# Altium footprint library BoardConnectors.PcbLib: 6 footprints (part 2 of 2)
Each footprint in its own frame and in the unit in brackets; x right, y up, seen from the top. Pads: shape width x height; smd on the part's side, far side on the other; paste and mask are expansions set on the pad; w line width, h text height; cw(c..) or ccw(c..) is an arc to the next point about the centre after c.
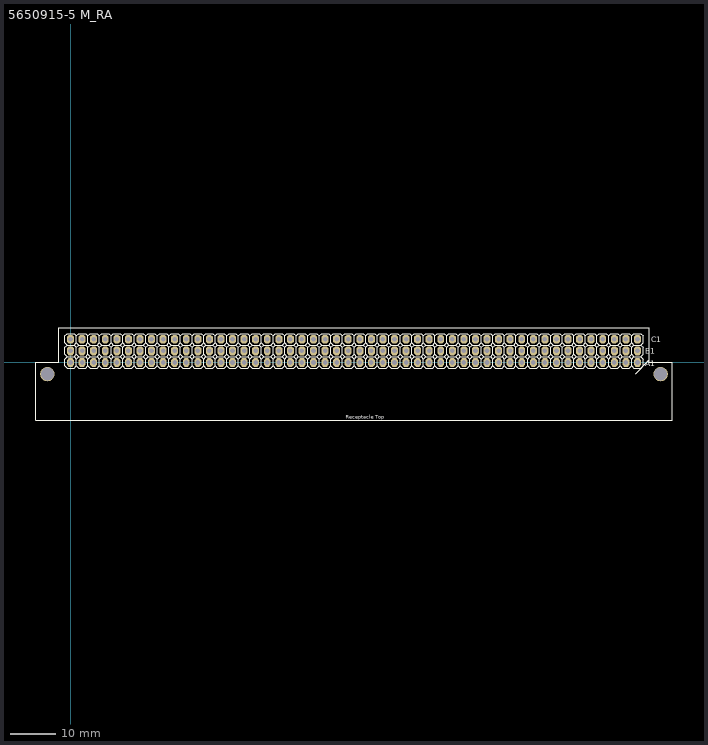
[diagram p1: the footprint, top view; thin cyan lines are the x and y axes]

## 5650915-5 M_RA [mil] "CONN DIN PLUG 150POS RT ANG PCB"
pads (152):
  oct 60x75 hole 40: A1(4900,0) A2(4800,0) A3(4700,0) A4(4600,0) A5(4500,0) A6(4400,0) A7(4300,0) A8(4200,0) A9(4100,0) A10(4000,0) A11(3900,0) A12(3800,0) A13(3700,0) A14(3600,0) A15(3500,0) A16(3400,0) A17(3300,0) A18(3200,0) A19(3100,0) A20(3000,0) A21(2900,0) A22(2800,0) A23(2700,0) A24(2600,0) A25(2500,0) A26(2400,0) A27(2300,0) A28(2200,0) A29(2100,0) A30(2000,0) A31(1900,0) A32(1800,0) A33(1700,0) A34(1600,0) A35(1500,0) A36(1400,0) A37(1300,0) A38(1200,0) A39(1100,0) A40(1000,0) A41(900,0) A42(800,0) A43(700,0) A44(600,0) A45(500,0) A46(400,0) A47(300,0) A48(200,0) A49(100,0) A50(0,0) B1(4900,100) B2(4800,100) B3(4700,100) B4(4600,100) B5(4500,100) B6(4400,100) B7(4300,100) B8(4200,100) B9(4100,100) B10(4000,100) B11(3900,100) B12(3800,100) B13(3700,100) B14(3600,100) B15(3500,100) B16(3400,100) B17(3300,100) B18(3200,100) B19(3100,100) B20(3000,100) B21(2900,100) B22(2800,100) B23(2700,100) B24(2600,100) B25(2500,100) B26(2400,100) B27(2300,100) B28(2200,100) B29(2100,100) B30(2000,100) B31(1900,100) B32(1800,100) B33(1700,100) B34(1600,100) B35(1500,100) B36(1400,100) B37(1300,100) B38(1200,100) B39(1100,100) B40(1000,100) B41(900,100) B42(800,100) B43(700,100) B44(600,100) B45(500,100) B46(400,100) B47(300,100) B48(200,100) B49(100,100) B50(0,100) C1(4900,200) C2(4800,200) C3(4700,200) C4(4600,200) C5(4500,200) C6(4400,200) C7(4300,200) C8(4200,200) C9(4100,200) C10(4000,200) C11(3900,200) C12(3800,200) C13(3700,200) C14(3600,200) C15(3500,200) C16(3400,200) C17(3300,200) C18(3200,200) C19(3100,200) C20(3000,200) C21(2900,200) C22(2800,200) C23(2700,200) C24(2600,200) C25(2500,200) C26(2400,200) C27(2300,200) C28(2200,200) C29(2100,200) C30(2000,200) C31(1900,200) C32(1800,200) C33(1700,200) C34(1600,200) C35(1500,200) C36(1400,200) C37(1300,200) C38(1200,200) C39(1100,200) C40(1000,200) C41(900,200) C42(800,200) C43(700,200) C44(600,200) C45(500,200) C46(400,200) C47(300,200) C48(200,200) C49(100,200) C50(0,200)
  round 125 hole 110: ""(-200,-100) ""(5100,-100)
Top Overlay:
  drawing of 1209 lines, arcs and shapes, not listed
  text "Receptacle Top" at 2377,-488 h30
  text "A1" at 4968,-32 h48
  text "B1" at 4967,75 h48
  text "C1" at 5017,177 h48
3D body: height 333, standoff 0, extent -301,-501 5199,-100
3D body: height 139.37, standoff -84.65, extent -11.81,92.13 11.81,107.87
3D body: height 147.24, standoff 130, extent -12,-105 12,107.87
3D body: height 39.37, standoff -84.65, extent -11.81,-7.87 11.81,7.87
3D body: height 47.24, standoff 30, extent -12,-105 12,7.87
3D body: height 247.24, standoff 230, extent -12,-105 12,207.87
3D body: height 239.37, standoff -84.65, extent -11.81,192.13 11.81,207.87
3D body: height 239.37, standoff -84.65, extent 88.19,192.13 111.81,207.87
3D body: height 247.24, standoff 230, extent 88,-105 112,207.87
3D body: height 47.24, standoff 30, extent 88,-105 112,7.87
3D body: height 39.37, standoff -84.65, extent 88.19,-7.87 111.81,7.87
3D body: height 147.24, standoff 130, extent 88,-105 112,107.87
3D body: height 139.37, standoff -84.65, extent 88.19,92.13 111.81,107.87
3D body: height 239.37, standoff -84.65, extent 189.19,192.13 212.81,207.87
3D body: height 247.24, standoff 230, extent 189,-105 213,207.87
3D body: height 47.24, standoff 30, extent 189,-105 213,7.87
3D body: height 39.37, standoff -84.65, extent 189.19,-7.87 212.81,7.87
3D body: height 147.24, standoff 130, extent 189,-105 213,107.87
3D body: height 139.37, standoff -84.65, extent 189.19,92.13 212.81,107.87
3D body: height 239.37, standoff -84.65, extent 289.19,192.13 312.81,207.87
3D body: height 247.24, standoff 230, extent 289,-105 313,207.87
3D body: height 47.24, standoff 30, extent 289,-105 313,7.87
3D body: height 39.37, standoff -84.65, extent 289.19,-7.87 312.81,7.87
3D body: height 147.24, standoff 130, extent 289,-105 313,107.87
3D body: height 139.37, standoff -84.65, extent 289.19,92.13 312.81,107.87
3D body: height 239.37, standoff -84.65, extent 389.19,192.13 412.81,207.87
3D body: height 247.24, standoff 230, extent 389,-105 413,207.87
3D body: height 47.24, standoff 30, extent 389,-105 413,7.87
3D body: height 39.37, standoff -84.65, extent 389.19,-7.87 412.81,7.87
3D body: height 147.24, standoff 130, extent 389,-105 413,107.87
3D body: height 139.37, standoff -84.65, extent 389.19,92.13 412.81,107.87
3D body: height 239.37, standoff -84.65, extent 489.19,192.13 512.81,207.87
3D body: height 247.24, standoff 230, extent 489,-105 513,207.87
3D body: height 47.24, standoff 30, extent 489,-105 513,7.87
3D body: height 39.37, standoff -84.65, extent 489.19,-7.87 512.81,7.87
3D body: height 147.24, standoff 130, extent 489,-105 513,107.87
3D body: height 139.37, standoff -84.65, extent 489.19,92.13 512.81,107.87
3D body: height 239.37, standoff -84.65, extent 589.19,192.13 612.81,207.87
3D body: height 247.24, standoff 230, extent 589,-105 613,207.87
3D body: height 47.24, standoff 30, extent 589,-105 613,7.87
3D body: height 39.37, standoff -84.65, extent 589.19,-7.87 612.81,7.87
3D body: height 147.24, standoff 130, extent 589,-105 613,107.87
3D body: height 139.37, standoff -84.65, extent 589.19,92.13 612.81,107.87
3D body: height 239.37, standoff -84.65, extent 689.19,192.13 712.81,207.87
3D body: height 247.24, standoff 230, extent 689,-105 713,207.87
3D body: height 47.24, standoff 30, extent 689,-105 713,7.87
3D body: height 39.37, standoff -84.65, extent 689.19,-7.87 712.81,7.87
3D body: height 147.24, standoff 130, extent 689,-105 713,107.87
3D body: height 139.37, standoff -84.65, extent 689.19,92.13 712.81,107.87
3D body: height 239.37, standoff -84.65, extent 789.19,192.13 812.81,207.87
3D body: height 247.24, standoff 230, extent 789,-105 813,207.87
3D body: height 47.24, standoff 30, extent 789,-105 813,7.87
3D body: height 39.37, standoff -84.65, extent 789.19,-7.87 812.81,7.87
3D body: height 147.24, standoff 130, extent 789,-105 813,107.87
3D body: height 139.37, standoff -84.65, extent 789.19,92.13 812.81,107.87
3D body: height 239.37, standoff -84.65, extent 889.19,192.13 912.81,207.87
3D body: height 247.24, standoff 230, extent 889,-105 913,207.87
3D body: height 47.24, standoff 30, extent 889,-105 913,7.87
3D body: height 39.37, standoff -84.65, extent 889.19,-7.87 912.81,7.87
3D body: height 147.24, standoff 130, extent 889,-105 913,107.87
3D body: height 139.37, standoff -84.65, extent 889.19,92.13 912.81,107.87
3D body: height 239.37, standoff -84.65, extent 989.19,192.13 1012.81,207.87
3D body: height 247.24, standoff 230, extent 989,-105 1013,207.87
3D body: height 47.24, standoff 30, extent 989,-105 1013,7.87
3D body: height 39.37, standoff -84.65, extent 989.19,-7.87 1012.81,7.87
3D body: height 147.24, standoff 130, extent 989,-105 1013,107.87
3D body: height 139.37, standoff -84.65, extent 989.19,92.13 1012.81,107.87
3D body: height 239.37, standoff -84.65, extent 1089.19,192.13 1112.81,207.87
3D body: height 247.24, standoff 230, extent 1089,-105 1113,207.87
3D body: height 47.24, standoff 30, extent 1089,-105 1113,7.87
3D body: height 39.37, standoff -84.65, extent 1089.19,-7.87 1112.81,7.87
3D body: height 147.24, standoff 130, extent 1089,-105 1113,107.87
3D body: height 139.37, standoff -84.65, extent 1089.19,92.13 1112.81,107.87
3D body: height 239.37, standoff -84.65, extent 1189.19,192.13 1212.81,207.87
3D body: height 247.24, standoff 230, extent 1189,-105 1213,207.87
3D body: height 47.24, standoff 30, extent 1189,-105 1213,7.87
3D body: height 39.37, standoff -84.65, extent 1189.19,-7.87 1212.81,7.87
3D body: height 147.24, standoff 130, extent 1189,-105 1213,107.87
3D body: height 139.37, standoff -84.65, extent 1189.19,92.13 1212.81,107.87
3D body: height 239.37, standoff -84.65, extent 1289.19,192.13 1312.81,207.87
3D body: height 247.24, standoff 230, extent 1289,-105 1313,207.87
3D body: height 47.24, standoff 30, extent 1289,-105 1313,7.87
3D body: height 39.37, standoff -84.65, extent 1289.19,-7.87 1312.81,7.87
3D body: height 147.24, standoff 130, extent 1289,-105 1313,107.87
3D body: height 139.37, standoff -84.65, extent 1289.19,92.13 1312.81,107.87
3D body: height 239.37, standoff -84.65, extent 1389.19,192.13 1412.81,207.87
3D body: height 247.24, standoff 230, extent 1389,-105 1413,207.87
3D body: height 47.24, standoff 30, extent 1389,-105 1413,7.87
3D body: height 39.37, standoff -84.65, extent 1389.19,-7.87 1412.81,7.87
3D body: height 147.24, standoff 130, extent 1389,-105 1413,107.87
3D body: height 139.37, standoff -84.65, extent 1389.19,92.13 1412.81,107.87
3D body: height 239.37, standoff -84.65, extent 1489.19,192.13 1512.81,207.87
3D body: height 247.24, standoff 230, extent 1489,-105 1513,207.87
3D body: height 47.24, standoff 30, extent 1489,-105 1513,7.87
3D body: height 39.37, standoff -84.65, extent 1489.19,-7.87 1512.81,7.87
3D body: height 147.24, standoff 130, extent 1489,-105 1513,107.87
3D body: height 139.37, standoff -84.65, extent 1489.19,92.13 1512.81,107.87
3D body: height 239.37, standoff -84.65, extent 1589.19,192.13 1612.81,207.87
3D body: height 247.24, standoff 230, extent 1589,-105 1613,207.87
3D body: height 47.24, standoff 30, extent 1589,-105 1613,7.87
3D body: height 39.37, standoff -84.65, extent 1589.19,-7.87 1612.81,7.87
3D body: height 147.24, standoff 130, extent 1589,-105 1613,107.87
3D body: height 139.37, standoff -84.65, extent 1589.19,92.13 1612.81,107.87
3D body: height 239.37, standoff -84.65, extent 1689.19,192.13 1712.81,207.87
3D body: height 247.24, standoff 230, extent 1689,-105 1713,207.87
3D body: height 47.24, standoff 30, extent 1689,-105 1713,7.87
3D body: height 39.37, standoff -84.65, extent 1689.19,-7.87 1712.81,7.87
3D body: height 147.24, standoff 130, extent 1689,-105 1713,107.87
3D body: height 139.37, standoff -84.65, extent 1689.19,92.13 1712.81,107.87
3D body: height 239.37, standoff -84.65, extent 1789.19,192.13 1812.81,207.87
3D body: height 247.24, standoff 230, extent 1789,-105 1813,207.87
3D body: height 47.24, standoff 30, extent 1789,-105 1813,7.87
3D body: height 39.37, standoff -84.65, extent 1789.19,-7.87 1812.81,7.87
3D body: height 147.24, standoff 130, extent 1789,-105 1813,107.87
3D body: height 139.37, standoff -84.65, extent 1789.19,92.13 1812.81,107.87
3D body: height 239.37, standoff -84.65, extent 1889.19,192.13 1912.81,207.87
3D body: height 247.24, standoff 230, extent 1889,-105 1913,207.87
3D body: height 47.24, standoff 30, extent 1889,-105 1913,7.87
3D body: height 39.37, standoff -84.65, extent 1889.19,-7.87 1912.81,7.87
3D body: height 147.24, standoff 130, extent 1889,-105 1913,107.87
3D body: height 139.37, standoff -84.65, extent 1889.19,92.13 1912.81,107.87
3D body: height 239.37, standoff -84.65, extent 1989.19,192.13 2012.81,207.87
3D body: height 247.24, standoff 230, extent 1989,-105 2013,207.87
3D body: height 47.24, standoff 30, extent 1989,-105 2013,7.87
3D body: height 39.37, standoff -84.65, extent 1989.19,-7.87 2012.81,7.87
3D body: height 147.24, standoff 130, extent 1989,-105 2013,107.87
3D body: height 139.37, standoff -84.65, extent 1989.19,92.13 2012.81,107.87
3D body: height 239.37, standoff -84.65, extent 2089.19,192.13 2112.81,207.87
3D body: height 247.24, standoff 230, extent 2089,-105 2113,207.87
3D body: height 47.24, standoff 30, extent 2089,-105 2113,7.87
3D body: height 39.37, standoff -84.65, extent 2089.19,-7.87 2112.81,7.87
3D body: height 147.24, standoff 130, extent 2089,-105 2113,107.87
3D body: height 139.37, standoff -84.65, extent 2089.19,92.13 2112.81,107.87
3D body: height 239.37, standoff -84.65, extent 2189.19,192.13 2212.81,207.87
3D body: height 247.24, standoff 230, extent 2189,-105 2213,207.87
3D body: height 47.24, standoff 30, extent 2189,-105 2213,7.87
3D body: height 39.37, standoff -84.65, extent 2189.19,-7.87 2212.81,7.87
3D body: height 147.24, standoff 130, extent 2189,-105 2213,107.87
3D body: height 139.37, standoff -84.65, extent 2189.19,92.13 2212.81,107.87
3D body: height 239.37, standoff -84.65, extent 2289.19,192.13 2312.81,207.87
3D body: height 247.24, standoff 230, extent 2289,-105 2313,207.87
3D body: height 47.24, standoff 30, extent 2289,-105 2313,7.87
3D body: height 39.37, standoff -84.65, extent 2289.19,-7.87 2312.81,7.87
3D body: height 147.24, standoff 130, extent 2289,-105 2313,107.87
3D body: height 139.37, standoff -84.65, extent 2289.19,92.13 2312.81,107.87
3D body: height 239.37, standoff -84.65, extent 2389.19,192.13 2412.81,207.87
3D body: height 247.24, standoff 230, extent 2389,-105 2413,207.87
3D body: height 47.24, standoff 30, extent 2389,-105 2413,7.87
3D body: height 39.37, standoff -84.65, extent 2389.19,-7.87 2412.81,7.87
3D body: height 147.24, standoff 130, extent 2389,-105 2413,107.87
3D body: height 139.37, standoff -84.65, extent 2389.19,92.13 2412.81,107.87
3D body: height 239.37, standoff -84.65, extent 2489.19,192.13 2512.81,207.87
3D body: height 247.24, standoff 230, extent 2489,-105 2513,207.87
3D body: height 47.24, standoff 30, extent 2489,-105 2513,7.87
3D body: height 39.37, standoff -84.65, extent 2489.19,-7.87 2512.81,7.87
3D body: height 147.24, standoff 130, extent 2489,-105 2513,107.87
3D body: height 139.37, standoff -84.65, extent 2489.19,92.13 2512.81,107.87
3D body: height 239.37, standoff -84.65, extent 2589.19,192.13 2612.81,207.87
3D body: height 247.24, standoff 230, extent 2589,-105 2613,207.87
3D body: height 47.24, standoff 30, extent 2589,-105 2613,7.87
3D body: height 39.37, standoff -84.65, extent 2589.19,-7.87 2612.81,7.87
3D body: height 147.24, standoff 130, extent 2589,-105 2613,107.87
3D body: height 139.37, standoff -84.65, extent 2589.19,92.13 2612.81,107.87
3D body: height 239.37, standoff -84.65, extent 2689.19,192.13 2712.81,207.87
3D body: height 247.24, standoff 230, extent 2689,-105 2713,207.87
3D body: height 47.24, standoff 30, extent 2689,-105 2713,7.87
3D body: height 39.37, standoff -84.65, extent 2689.19,-7.87 2712.81,7.87
3D body: height 147.24, standoff 130, extent 2689,-105 2713,107.87
3D body: height 139.37, standoff -84.65, extent 2689.19,92.13 2712.81,107.87
3D body: height 239.37, standoff -84.65, extent 2789.19,192.13 2812.81,207.87
3D body: height 247.24, standoff 230, extent 2789,-105 2813,207.87
3D body: height 47.24, standoff 30, extent 2789,-105 2813,7.87
3D body: height 39.37, standoff -84.65, extent 2789.19,-7.87 2812.81,7.87
3D body: height 147.24, standoff 130, extent 2789,-105 2813,107.87
3D body: height 139.37, standoff -84.65, extent 2789.19,92.13 2812.81,107.87
3D body: height 239.37, standoff -84.65, extent 2889.19,192.13 2912.81,207.87
3D body: height 247.24, standoff 230, extent 2889,-105 2913,207.87
3D body: height 47.24, standoff 30, extent 2889,-105 2913,7.87
3D body: height 39.37, standoff -84.65, extent 2889.19,-7.87 2912.81,7.87
3D body: height 147.24, standoff 130, extent 2889,-105 2913,107.87
3D body: height 139.37, standoff -84.65, extent 2889.19,92.13 2912.81,107.87
3D body: height 239.37, standoff -84.65, extent 2989.19,192.13 3012.81,207.87
3D body: height 247.24, standoff 230, extent 2989,-105 3013,207.87
3D body: height 47.24, standoff 30, extent 2989,-105 3013,7.87
3D body: height 39.37, standoff -84.65, extent 2989.19,-7.87 3012.81,7.87
3D body: height 147.24, standoff 130, extent 2989,-105 3013,107.87
3D body: height 139.37, standoff -84.65, extent 2989.19,92.13 3012.81,107.87
3D body: height 239.37, standoff -84.65, extent 3089.19,192.13 3112.81,207.87
3D body: height 247.24, standoff 230, extent 3089,-105 3113,207.87
3D body: height 47.24, standoff 30, extent 3089,-105 3113,7.87
3D body: height 39.37, standoff -84.65, extent 3089.19,-7.87 3112.81,7.87
3D body: height 147.24, standoff 130, extent 3089,-105 3113,107.87
3D body: height 139.37, standoff -84.65, extent 3089.19,92.13 3112.81,107.87
3D body: height 239.37, standoff -84.65, extent 3189.19,192.13 3212.81,207.87
3D body: height 247.24, standoff 230, extent 3189,-105 3213,207.87
3D body: height 47.24, standoff 30, extent 3189,-105 3213,7.87
3D body: height 39.37, standoff -84.65, extent 3189.19,-7.87 3212.81,7.87
3D body: height 147.24, standoff 130, extent 3189,-105 3213,107.87
3D body: height 139.37, standoff -84.65, extent 3189.19,92.13 3212.81,107.87
3D body: height 239.37, standoff -84.65, extent 3289.19,192.13 3312.81,207.87
3D body: height 247.24, standoff 230, extent 3289,-105 3313,207.87
3D body: height 47.24, standoff 30, extent 3289,-105 3313,7.87
3D body: height 39.37, standoff -84.65, extent 3289.19,-7.87 3312.81,7.87
3D body: height 147.24, standoff 130, extent 3289,-105 3313,107.87
3D body: height 139.37, standoff -84.65, extent 3289.19,92.13 3312.81,107.87
3D body: height 239.37, standoff -84.65, extent 3389.19,192.13 3412.81,207.87
3D body: height 247.24, standoff 230, extent 3389,-105 3413,207.87
3D body: height 47.24, standoff 30, extent 3389,-105 3413,7.87
3D body: height 39.37, standoff -84.65, extent 3389.19,-7.87 3412.81,7.87
3D body: height 147.24, standoff 130, extent 3389,-105 3413,107.87
3D body: height 139.37, standoff -84.65, extent 3389.19,92.13 3412.81,107.87
3D body: height 239.37, standoff -84.65, extent 3489.19,192.13 3512.81,207.87
3D body: height 247.24, standoff 230, extent 3489,-105 3513,207.87
3D body: height 47.24, standoff 30, extent 3489,-105 3513,7.87
3D body: height 39.37, standoff -84.65, extent 3489.19,-7.87 3512.81,7.87
3D body: height 147.24, standoff 130, extent 3489,-105 3513,107.87
3D body: height 139.37, standoff -84.65, extent 3489.19,92.13 3512.81,107.87
3D body: height 239.37, standoff -84.65, extent 3589.19,192.13 3612.81,207.87
3D body: height 247.24, standoff 230, extent 3589,-105 3613,207.87
3D body: height 47.24, standoff 30, extent 3589,-105 3613,7.87
3D body: height 39.37, standoff -84.65, extent 3589.19,-7.87 3612.81,7.87
3D body: height 147.24, standoff 130, extent 3589,-105 3613,107.87
3D body: height 139.37, standoff -84.65, extent 3589.19,92.13 3612.81,107.87
3D body: height 239.37, standoff -84.65, extent 3689.19,192.13 3712.81,207.87
3D body: height 247.24, standoff 230, extent 3689,-105 3713,207.87
3D body: height 47.24, standoff 30, extent 3689,-105 3713,7.87
3D body: height 39.37, standoff -84.65, extent 3689.19,-7.87 3712.81,7.87
3D body: height 147.24, standoff 130, extent 3689,-105 3713,107.87
3D body: height 139.37, standoff -84.65, extent 3689.19,92.13 3712.81,107.87
3D body: height 239.37, standoff -84.65, extent 3789.19,192.13 3812.81,207.87
3D body: height 247.24, standoff 230, extent 3789,-105 3813,207.87
3D body: height 47.24, standoff 30, extent 3789,-105 3813,7.87
3D body: height 39.37, standoff -84.65, extent 3789.19,-7.87 3812.81,7.87
3D body: height 147.24, standoff 130, extent 3789,-105 3813,107.87
3D body: height 139.37, standoff -84.65, extent 3789.19,92.13 3812.81,107.87
3D body: height 239.37, standoff -84.65, extent 3889.19,192.13 3912.81,207.87
3D body: height 247.24, standoff 230, extent 3889,-105 3913,207.87
3D body: height 47.24, standoff 30, extent 3889,-105 3913,7.87
3D body: height 39.37, standoff -84.65, extent 3889.19,-7.87 3912.81,7.87
3D body: height 147.24, standoff 130, extent 3889,-105 3913,107.87
3D body: height 139.37, standoff -84.65, extent 3889.19,92.13 3912.81,107.87
3D body: height 239.37, standoff -84.65, extent 3989.19,192.13 4012.81,207.87
3D body: height 247.24, standoff 230, extent 3989,-105 4013,207.87
3D body: height 47.24, standoff 30, extent 3989,-105 4013,7.87
3D body: height 39.37, standoff -84.65, extent 3989.19,-7.87 4012.81,7.87
3D body: height 147.24, standoff 130, extent 3989,-105 4013,107.87
3D body: height 139.37, standoff -84.65, extent 3989.19,92.13 4012.81,107.87
3D body: height 239.37, standoff -84.65, extent 4089.19,192.13 4112.81,207.87
3D body: height 247.24, standoff 230, extent 4089,-105 4113,207.87
3D body: height 47.24, standoff 30, extent 4089,-105 4113,7.87
3D body: height 39.37, standoff -84.65, extent 4089.19,-7.87 4112.81,7.87
3D body: height 147.24, standoff 130, extent 4089,-105 4113,107.87
3D body: height 139.37, standoff -84.65, extent 4089.19,92.13 4112.81,107.87
3D body: height 239.37, standoff -84.65, extent 4189.19,192.13 4212.81,207.87
3D body: height 247.24, standoff 230, extent 4189,-105 4213,207.87
3D body: height 47.24, standoff 30, extent 4189,-105 4213,7.87
3D body: height 39.37, standoff -84.65, extent 4189.19,-7.87 4212.81,7.87
3D body: height 147.24, standoff 130, extent 4189,-105 4213,107.87
3D body: height 139.37, standoff -84.65, extent 4189.19,92.13 4212.81,107.87
3D body: height 239.37, standoff -84.65, extent 4289.19,192.13 4312.81,207.87
3D body: height 247.24, standoff 230, extent 4289,-105 4313,207.87
3D body: height 47.24, standoff 30, extent 4289,-105 4313,7.87
3D body: height 39.37, standoff -84.65, extent 4289.19,-7.87 4312.81,7.87
3D body: height 147.24, standoff 130, extent 4289,-105 4313,107.87
3D body: height 139.37, standoff -84.65, extent 4289.19,92.13 4312.81,107.87
3D body: height 239.37, standoff -84.65, extent 4389.19,192.13 4412.81,207.87
3D body: height 247.24, standoff 230, extent 4389,-105 4413,207.87
3D body: height 47.24, standoff 30, extent 4389,-105 4413,7.87
3D body: height 39.37, standoff -84.65, extent 4389.19,-7.87 4412.81,7.87
3D body: height 147.24, standoff 130, extent 4389,-105 4413,107.87
3D body: height 139.37, standoff -84.65, extent 4389.19,92.13 4412.81,107.87
3D body: height 239.37, standoff -84.65, extent 4489.19,192.13 4512.81,207.87
3D body: height 247.24, standoff 230, extent 4489,-105 4513,207.87
3D body: height 47.24, standoff 30, extent 4489,-105 4513,7.87
3D body: height 39.37, standoff -84.65, extent 4489.19,-7.87 4512.81,7.87
3D body: height 147.24, standoff 130, extent 4489,-105 4513,107.87
3D body: height 139.37, standoff -84.65, extent 4489.19,92.13 4512.81,107.87
3D body: height 239.37, standoff -84.65, extent 4589.19,192.13 4612.81,207.87
3D body: height 247.24, standoff 230, extent 4589,-105 4613,207.87
3D body: height 47.24, standoff 30, extent 4589,-105 4613,7.87
3D body: height 39.37, standoff -84.65, extent 4589.19,-7.87 4612.81,7.87
3D body: height 147.24, standoff 130, extent 4589,-105 4613,107.87
3D body: height 139.37, standoff -84.65, extent 4589.19,92.13 4612.81,107.87
3D body: height 239.37, standoff -84.65, extent 4689.19,192.13 4712.81,207.87
3D body: height 247.24, standoff 230, extent 4689,-105 4713,207.87
3D body: height 47.24, standoff 30, extent 4689,-105 4713,7.87
3D body: height 39.37, standoff -84.65, extent 4689.19,-7.87 4712.81,7.87
3D body: height 147.24, standoff 130, extent 4689,-105 4713,107.87
3D body: height 139.37, standoff -84.65, extent 4689.19,92.13 4712.81,107.87
3D body: height 239.37, standoff -84.65, extent 4789.19,192.13 4812.81,207.87
3D body: height 247.24, standoff 230, extent 4789,-105 4813,207.87
3D body: height 47.24, standoff 30, extent 4789,-105 4813,7.87
3D body: height 39.37, standoff -84.65, extent 4789.19,-7.87 4812.81,7.87
3D body: height 147.24, standoff 130, extent 4789,-105 4813,107.87
3D body: height 139.37, standoff -84.65, extent 4789.19,92.13 4812.81,107.87
3D body: height 239.37, standoff -84.65, extent 4889.19,192.13 4912.81,207.87
3D body: height 247.24, standoff 230, extent 4889,-105 4913,207.87
3D body: height 47.24, standoff 30, extent 4889,-105 4913,7.87
3D body: height 39.37, standoff -84.65, extent 4889.19,-7.87 4912.81,7.87
3D body: height 147.24, standoff 130, extent 4889,-105 4913,107.87
3D body: height 139.37, standoff -84.65, extent 4889.19,92.13 4912.81,107.87